# Altium schematic symbol library MFS201N-24-Z.SchLib: 1 symbol
Pins are listed as number, name and electrical type; pins without a type are passive.

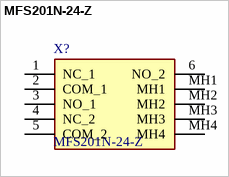
[diagram p0: symbol MFS201N-24-Z]

## MFS201N-24-Z
designator X?
SWITCH SLIDE DPDT 300MA 30V; Manufacturer_Name: Nidec Copal; Geometry.Height: 4mm; Farnell Part Number: *; Farnell Price/Stock: *; Manufacturer_Part_Number: MFS201N-24-Z; Datasheet Link: *
footprint MFS201N24Z
pins: 1 NC_1, 2 COM_1, 3 NO_1, 4 NC_2, 5 COM_2, 6 NO_2, MH1, MH2, MH3, MH4